# Altium footprint library PCB Chip Inductor.PcbLib: 24 footprints (part 1 of 2)
Each footprint in its own frame and in the unit in brackets; x right, y up, seen from the top. Pads: shape width x height; smd on the part's side, far side on the other; paste and mask are expansions set on the pad; w line width, h text height; cw(c..) or ccw(c..) is an arc to the next point about the centre after c.
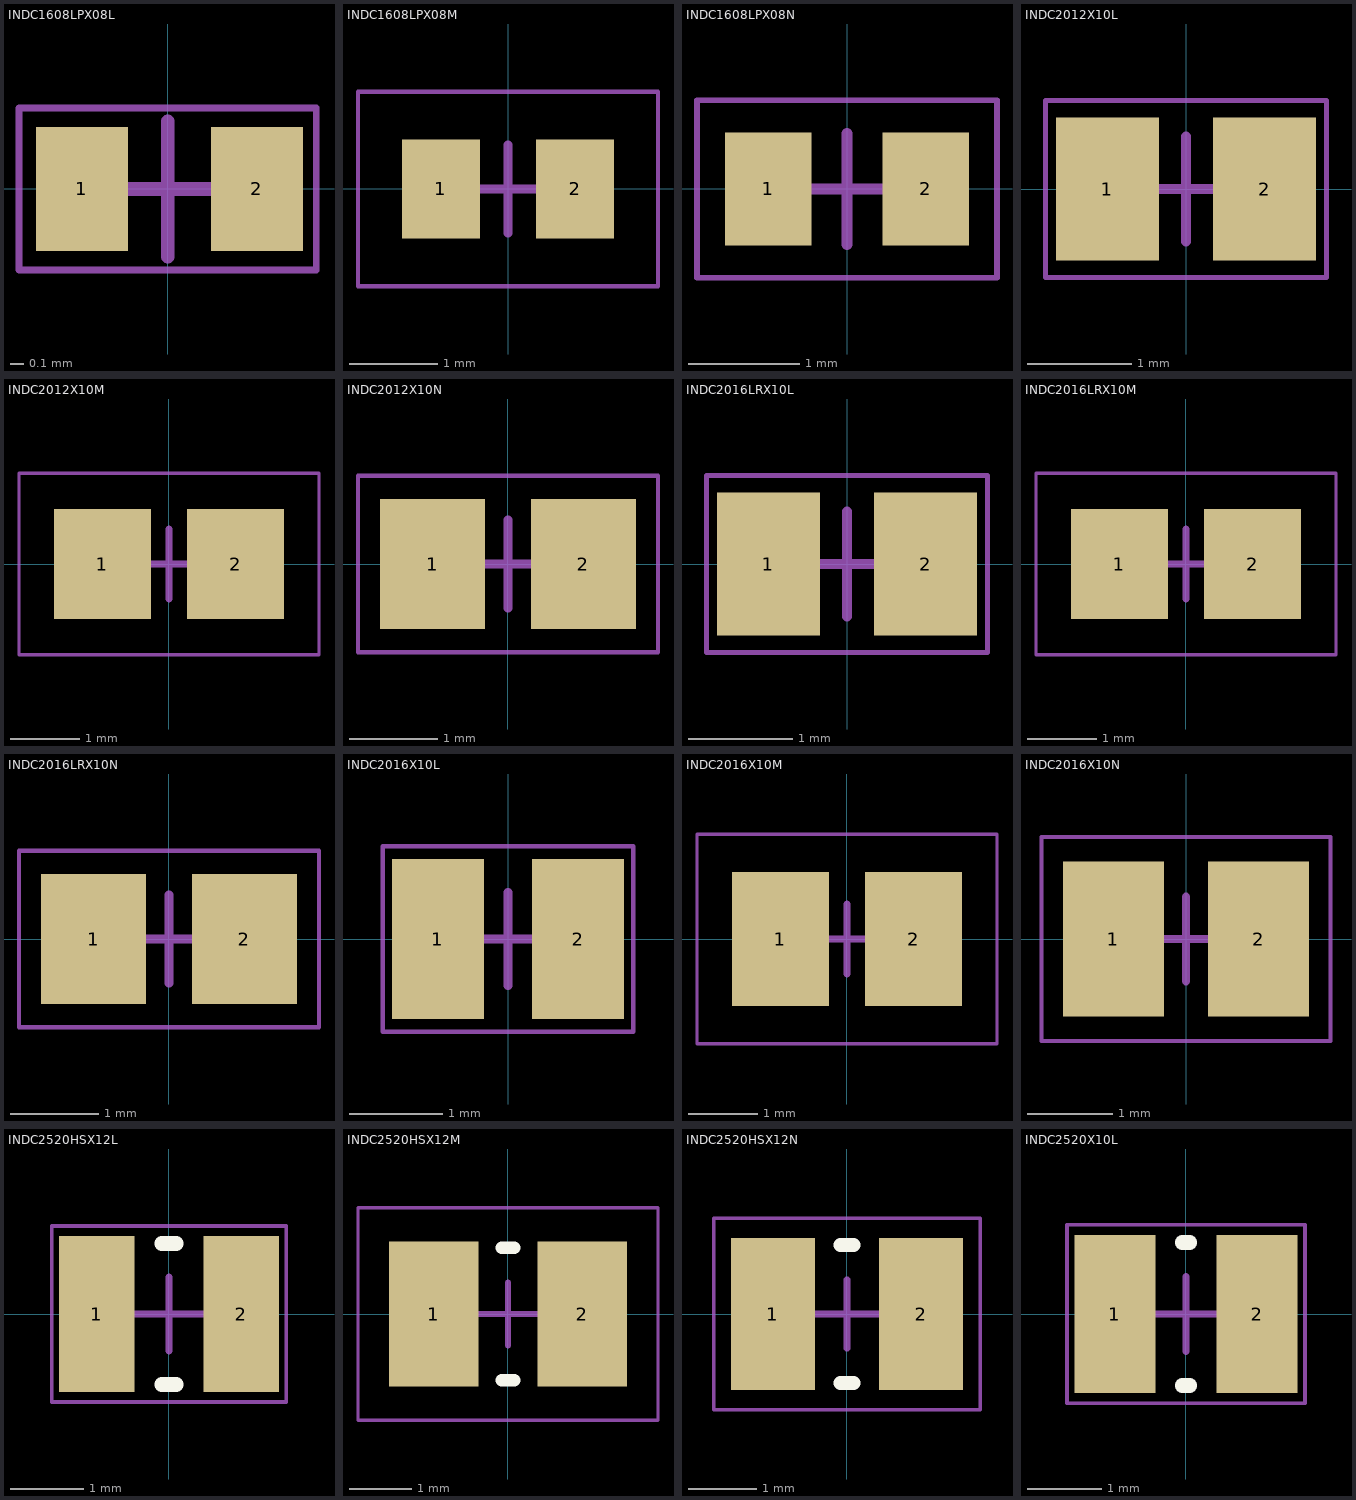
[diagram p0: the footprints below, top view; thin cyan lines are the x and y axes]

## INDC1608LPX08L [mm] "Chip Inductor, Body 0.6x0.3mm, IPC High Density (0603LP Imperial)"
height 0.8
pads (2):
  rect 0.68x0.92 smd: 1(-0.635,0) 2(0.66,0)
Mechanical 15:
  lines w0.05: -1.1,-0.6 1.1,-0.6 1.1,0.6 -1.1,0.6 -1.1,-0.6
  lines w0.1: -0.5,0 0.5,0 ; 0,-0.5 0,0.5
3D body "STEP-WE-PMCI-0603_LP-rev1.stp": height 0.81, standoff 0.01, extent -0.762,-0.419 0.838,0.381

## INDC1608LPX08M [mm] "Chip Inductor, Body 0.6x0.3mm, IPC Low Density (0603LP Imperial)"
height 0.8
pads (2):
  rect 0.88x1.12 smd: 1(-0.76,0) 2(0.76,0)
Mechanical 15:
  lines w0.05: -1.7,-1.1 1.7,-1.1 1.7,1.1 -1.7,1.1 -1.7,-1.1
  lines w0.1: -0.5,0 0.5,0 ; 0,-0.5 0,0.5
3D body "STEP-WE-PMCI-0603_LP-rev1.stp": height 0.81, standoff 0.01, extent -0.8,-0.4 0.8,0.4

## INDC1608LPX08N [mm] "Chip Inductor, Body 0.6x0.3mm, IPC Medium Density (0603LP Imperial)"
height 0.8
pads (2):
  rect 0.78x1.02 smd: 1(-0.71,0) 2(0.71,0)
Mechanical 15:
  lines w0.05: -1.35,-0.8 1.35,-0.8 1.35,0.8 -1.35,0.8 -1.35,-0.8
  lines w0.1: -0.5,0 0.5,0 ; 0,-0.5 0,0.5
3D body "STEP-WE-PMCI-0603_LP-rev1.stp": height 0.81, standoff 0.01, extent -0.8,-0.4 0.8,0.4

## INDC2012X10L [mm] "Chip Inductor, Body 0.8x0.5mm, IPC High Density (0805 Imperial)"
height 1
pads (2):
  rect 0.99x1.37 smd: 1(-0.755,0) 2(0.755,0)
Mechanical 15:
  lines w0.05: -1.35,-0.85 1.35,-0.85 1.35,0.85 -1.35,0.85 -1.35,-0.85
  lines w0.1: -0.5,0 0.5,0 ; 0,-0.5 0,0.5
3D body "STEP-WE-PMCI-0805-rev1.stp": height 1.01, standoff 0.01, extent -1,-0.625 1,0.625

## INDC2012X10M [mm] "Chip Inductor, Body 0.8x0.5mm, IPC Low Density (0805 Imperial)"
height 1
pads (2):
  rect 1.39x1.57 smd: 1(-0.955,0) 2(0.955,0)
Mechanical 15:
  lines w0.05: -2.15,-1.3 -2.15,1.3 2.15,1.3 2.15,-1.3 -2.15,-1.3
  lines w0.1: -0.5,0 0.5,0 ; 0,-0.5 0,0.5
3D body "STEP-WE-PMCI-0805-rev1.stp": height 1.01, standoff 0.01, extent -1,-0.625 1,0.625

## INDC2012X10N [mm] "Chip Inductor, Body 0.8x0.5mm, IPC Medium Density (0805 Imperial)"
height 1
pads (2):
  rect 1.19x1.47 smd: 1(-0.855,0) 2(0.855,0)
Mechanical 15:
  lines w0.05: -1.7,-1 1.7,-1 1.7,1 -1.7,1 -1.7,-1
  lines w0.1: -0.5,0 0.5,0 ; 0,-0.5 0,0.5
3D body "STEP-WE-PMCI-0805-rev1.stp": height 1.01, standoff 0.01, extent -1,-0.625 1,0.625

## INDC2016LRX10L [mm] "Chip Inductor, Body 0.8x0.6mm, IPC High Density (0806LR Imperial)"
height 1
pads (2):
  rect 0.99x1.37 smd: 1(-0.755,0) 2(0.755,0)
Mechanical 15:
  lines w0.05: -1.35,-0.85 1.35,-0.85 1.35,0.85 -1.35,0.85 -1.35,-0.85
  lines w0.1: -0.5,0 0.5,0 ; 0,-0.5 0,0.5
3D body "STEP-WE-PMCI-0806_LR-rev1.stp": height 1.02, standoff 0.02, extent -1,-0.625 1,0.625

## INDC2016LRX10M [mm] "Chip Inductor, Body 0.8x0.6mm, IPC Low Density (0806LR Imperial)"
height 1
pads (2):
  rect 1.39x1.57 smd: 1(-0.955,0) 2(0.955,0)
Mechanical 15:
  lines w0.05: -2.15,-1.3 -2.15,1.3 2.15,1.3 2.15,-1.3 -2.15,-1.3
  lines w0.1: -0.5,0 0.5,0 ; 0,-0.5 0,0.5
3D body "STEP-WE-PMCI-0806_LR-rev1.stp": height 1.02, standoff 0.02, extent -1,-0.625 1,0.625

## INDC2016LRX10N [mm] "Chip Inductor, Body 0.8x0.6mm, IPC Medium Density (0806LR Imperial)"
height 1
pads (2):
  rect 1.19x1.47 smd: 1(-0.855,0) 2(0.855,0)
Mechanical 15:
  lines w0.05: -1.7,-1 1.7,-1 1.7,1 -1.7,1 -1.7,-1
  lines w0.1: -0.5,0 0.5,0 ; 0,-0.5 0,0.5
3D body "STEP-WE-PMCI-0806_LR-rev1.stp": height 1.02, standoff 0.02, extent -1,-0.625 1,0.625

## INDC2016X10L [mm] "Chip Inductor, Body 0.8x0.6mm, IPC High Density (0806 Imperial)"
height 1
pads (2):
  rect 0.99x1.72 smd: 1(-0.755,0) 2(0.755,0)
Mechanical 15:
  lines w0.05: -1.35,-1 1.35,-1 1.35,1 -1.35,1 -1.35,-1
  lines w0.1: -0.5,0 0.5,0 ; 0,-0.5 0,0.5
3D body "STEP-WE-PMCI-0806-rev1.stp": height 1.02, standoff 0.02, extent -1,-0.8 1,0.8

## INDC2016X10M [mm] "Chip Inductor, Body 0.8x0.6mm, IPC Low Density (0806 Imperial)"
height 1
pads (2):
  rect 1.39x1.92 smd: 1(-0.955,0) 2(0.955,0)
Mechanical 15:
  lines w0.05: -2.15,-1.5 2.15,-1.5 2.15,1.5 -2.15,1.5 -2.15,-1.5
  lines w0.1: -0.5,0 0.5,0 ; 0,-0.5 0,0.5
3D body "STEP-WE-PMCI-0806-rev1.stp": height 1.02, standoff 0.02, extent -1,-0.8 1,0.8

## INDC2016X10N [mm] "Chip Inductor, Body 0.8x0.6mm, IPC Medium Density (0806 Imperial)"
height 1
pads (2):
  rect 1.19x1.82 smd: 1(-0.855,0) 2(0.855,0)
Mechanical 15:
  lines w0.05: -1.7,-1.2 -1.7,1.2 1.7,1.2 1.7,-1.2 -1.7,-1.2
  lines w0.1: -0.5,0 0.5,0 ; 0,-0.5 0,0.5
3D body "STEP-WE-PMCI-0806-rev1.stp": height 1.02, standoff 0.02, extent -1,-0.8 1,0.8

## INDC2520HSX12L [mm] "Chip Inductor, Body 1.0x0.8mm, IPC High Density (1008HS Imperial)"
height 1.2
pads (2):
  rect 1.03x2.12 smd: 1(-0.985,0) 2(0.985,0)
Top Overlay:
  lines w0.2: -0.1,-0.96 0.1,-0.96 ; -0.1,0.96 0.1,0.96
Mechanical 15:
  lines w0.05: -1.6,-1.2 1.6,-1.2 1.6,1.2 -1.6,1.2 -1.6,-1.2
  lines w0.1: -0.5,0 0.5,0 ; 0,-0.5 0,0.5
3D body "STEP-WE-PMCI-1008_HS-rev1.stp": height 1.12, standoff -0.08, extent -1.25,-1 1.25,1

## INDC2520HSX12M [mm] "Chip Inductor, Body 1.0x0.8mm, IPC Low Density (1008HS Imperial)"
height 1.2
pads (2):
  rect 1.43x2.32 smd: 1(-1.185,0) 2(1.185,0)
Top Overlay:
  lines w0.2: -0.1,-1.06 0.1,-1.06 ; -0.1,1.06 0.1,1.06
Mechanical 15:
  lines w0.05: -2.4,-1.7 -2.4,1.7 2.4,1.7 2.4,-1.7 -2.4,-1.7
  lines w0.1: -0.5,0 0.5,0 ; 0,-0.5 0,0.5
3D body "STEP-WE-PMCI-1008_HS-rev1.stp": height 1.12, standoff -0.08, extent -1.25,-1 1.25,1

## INDC2520HSX12N [mm] "Chip Inductor, Body 1.0x0.8mm, IPC Medium Density (1008HS Imperial)"
height 1.2
pads (2):
  rect 1.23x2.22 smd: 1(-1.085,0) 2(1.085,0)
Top Overlay:
  lines w0.2: -0.1,-1.01 0.1,-1.01 ; -0.1,1.01 0.1,1.01
Mechanical 15:
  lines w0.05: -1.95,-1.4 1.95,-1.4 1.95,1.4 -1.95,1.4 -1.95,-1.4
  lines w0.1: -0.5,0 0.5,0 ; 0,-0.5 0,0.5
3D body "STEP-WE-PMCI-1008_HS-rev1.stp": height 1.12, standoff -0.08, extent -1.25,-1 1.25,1

## INDC2520X10L [mm] "Chip Inductor, Body 1.0x0.8mm, IPC High Density (1008 Imperial)"
height 1
pads (2):
  rect 1.09x2.12 smd: 1(-0.955,0) 2(0.955,0)
Top Overlay:
  lines w0.2: -0.05,-0.96 0.05,-0.96 ; -0.05,0.96 0.05,0.96
Mechanical 15:
  lines w0.05: -1.6,-1.2 -1.6,1.2 1.6,1.2 1.6,-1.2 -1.6,-1.2
  lines w0.1: -0.5,0 0.5,0 ; 0,-0.5 0,0.5
3D body "STEP-WE-PMCI-1008-rev1.stp": height 1.12, standoff 0.12, extent -1.25,-1 1.25,1